# EAGLE library part MAX3227 (library Maxim)
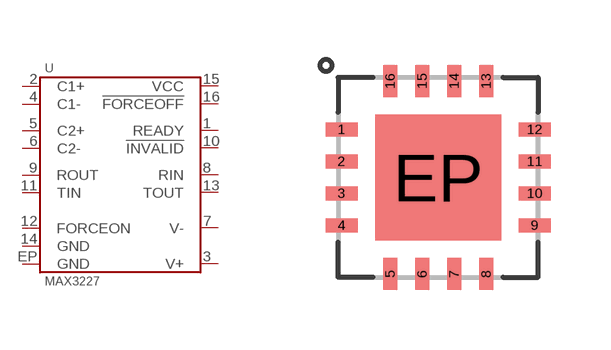
[diagram p2: symbol with the pads of QFN-16_5X5; footprint QFN-16_5X5]

Designator prefix U

## MAX3227ECTE+  [QFN-16_5X5]
1  READY
2  C1+
3  V+
4  C1-
5  C2+
6  C2-
7  V-
8  RIN
9  ROUT
10  !INVALID
11  TIN
12  FORCEON
13  TOUT
14  GND
15  VCC
16  !FORCEOFF
EP  GND

## Footprint QFN-16_5X5 (pad centres in mm)
smd 0.8 x 0.35: 1 -2.415,1.2; 2 -2.415,0.4; 3 -2.415,-0.4; 4 -2.415,-1.2; 9 2.415,-1.2; 10 2.415,-0.4; 11 2.415,0.4; 12 2.415,1.2
smd 0.35 x 0.8: 5 -1.2,-2.415; 6 -0.4,-2.415; 7 0.4,-2.415; 8 1.2,-2.415; 13 1.2,2.415; 14 0.4,2.415; 15 -0.4,2.415; 16 -1.2,2.415
smd 3.15 x 3.15: EP 0,0